# Altium schematic symbol library RES 7m 3W.Schlib: 1 symbol
Pins are listed as number, name and electrical type; pins without a type are passive.

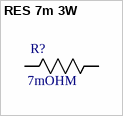
[diagram p0: symbol RES 7m 3W]

## RES 7m 3W
designator R?, comment 7mOHM
RES SMD 7m OHM 1% 3W 2512
pins: 1 R1, 2 R2